# Altium integrated library Micron Memory Parallel NOR Flash.IntLib: 720 symbols (part 118 of 216)
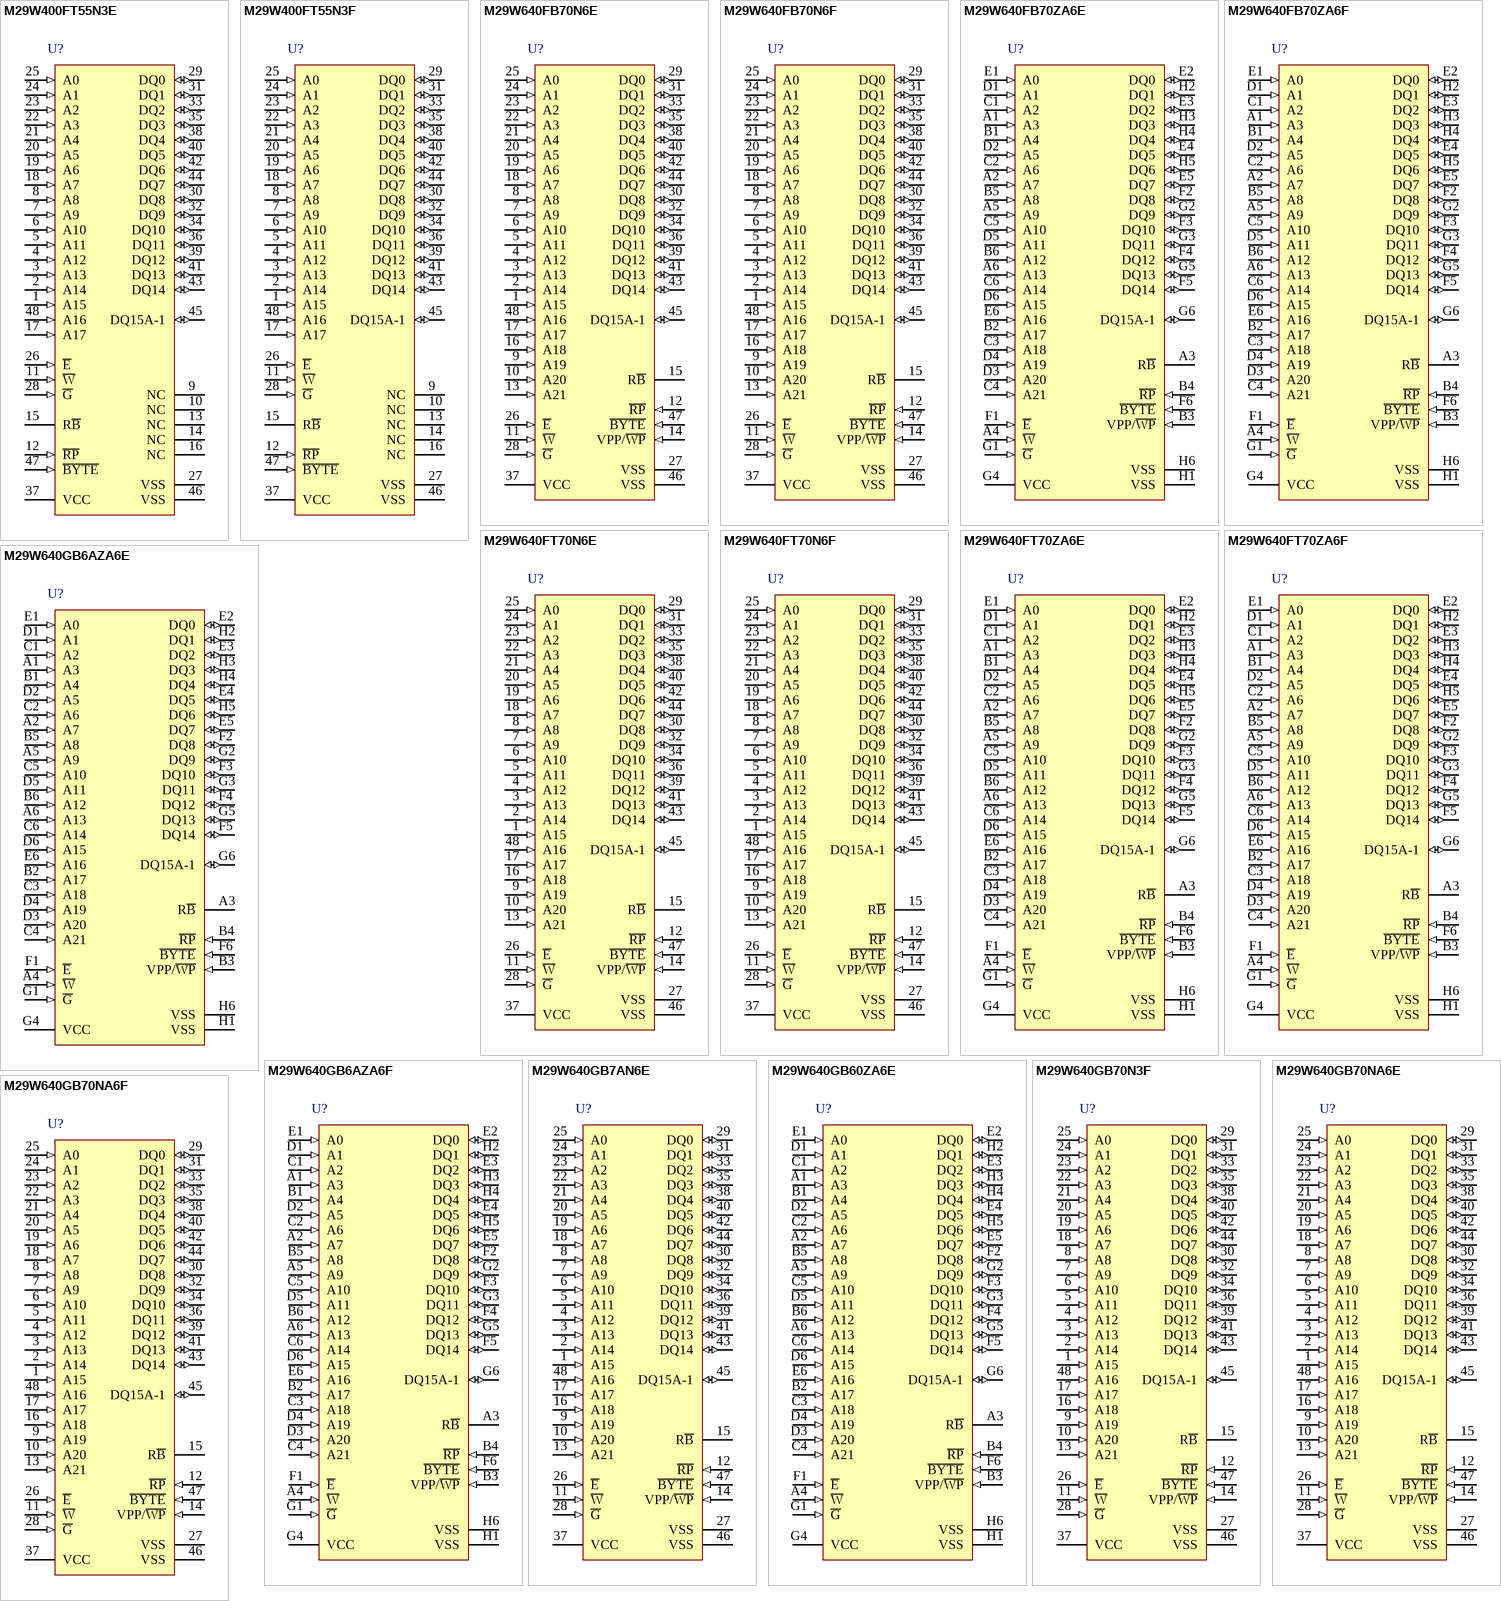
[diagram p161: symbols M29W400FT55N3E to M29W640GB70NA6F]

## M29W640GB70NA6E
designator U?
64 Mb (x8/x16) Parallel NOR Flash Memory, 70 ns, 2.7 to 3.6 V, 48-pin TSOP (NA), Tray; Part Family: M29W; Manufacturer: Micron; PartNumber: M29W640GB70NA6E; Density: 64Mb; Op Temp: -40C to +85C; Speed: 70ns; Voltage: 2.7V-3.6V; DatasheetVersion: Rev. 11; PackageVersion: Rev. 11; PackageReference: MICT-NA-48; PackageDescription: 48-Pin TSOP, 18.4 X 12 mm, Pitch 0.5 mm; RoHS: Yes; Width: x8/x16; Mounting Technology: Surface Mount; ComponentLink1Description: Manufacturer URL; ComponentLink1URL: http://www.micron.com/; ComponentLink2Description: Datasheet; ComponentLink2URL: http://www.micron.com/~/media/Documents/Products/Data%20Sheet/NOR%20Flash/Parallel/P33/208034_P33_65nm_SBC_64M_128M_Discrete_DS.pdf; ComponentLink3Description: Package Specification; ComponentLink3URL: http://www.micron.com/~/media/Documents/Products/Data%20Sheet/NOR%20Flash/Parallel/P33/208034_P33_65nm_SBC_64M_128M_Discrete_DS.pdf
footprint MICT-NA-48_N (SOP, 48-Leads, Body 18.5x12.1mm, Pitch 0.5mm, IPC Medium Density)
pins: 1 A15 (in) "The Address Input select the cells in the memory array to access during bus read operations. During bus write operations they control the commands sent to the command interface of the program/erase controller.", 2 A14 (in) "The Address Input select the cells in the memory array to access during bus read operations. During bus write operations they control the commands sent to the command interface of the program/erase controller.", 3 A13 (in) "The Address Input select the cells in the memory array to access during bus read operations. During bus write operations they control the commands sent to the command interface of the program/erase controller.", 4 A12 (in) "The Address Input select the cells in the memory array to access during bus read operations. During bus write operations they control the commands sent to the command interface of the program/erase controller.", 5 A11 (in) "The Address Input select the cells in the memory array to access during bus read operations. During bus write operations they control the commands sent to the command interface of the program/erase controller.", 6 A10 (in) "The Address Input select the cells in the memory array to access during bus read operations. During bus write operations they control the commands sent to the command interface of the program/erase controller.", 7 A9 (in) "The Address Input select the cells in the memory array to access during bus read operations. During bus write operations they control the commands sent to the command interface of the program/erase controller.", 8 A8 (in) "The Address Input select the cells in the memory array to access during bus read operations. During bus write operations they control the commands sent to the command interface of the program/erase controller.", 9 A19 (in) "The Address Input select the cells in the memory array to access during bus read operations. During bus write operations they control the commands sent to the command interface of the program/erase controller.", 10 A20 (in) "The Address Input select the cells in the memory array to access during bus read operations. During bus write operations they control the commands sent to the command interface of the program/erase controller.", 11 ~{W} (in) "The Write Enable, W\, controls the bus write operation of the memory’s command interface.", 12 ~{RP} (in) "The Reset/Block Temporary Unprotect pin can be used to apply a hardware reset to the memory or to temporarily unprotect all blocks that have been protected.", 13 A21 (in) "The Address Input select the cells in the memory array to access during bus read operations. During bus write operations they control the commands sent to the command interface of the program/erase controller.", 14 VPP/~{WP} (in) "The VPP/Write Protect pin provides two functions. The VPP function allows the memory to use an external high voltage power supply to reduce the time required for Unlock Bypass Program operations.", 15 R~{B} (hiz) "The Ready/Busy pin is an open-drain output that can be used to identify when the device is performing a program or erase operation. During program or erase operations Ready/Busy is Low, VOL. Ready/Busy is high-impedance (See Datasheet)", 16 A18 (in) "The Address Input select the cells in the memory array to access during bus read operations. During bus write operations they control the commands sent to the command interface of the program/erase controller.", 17 A17 (in) "The Address Input select the cells in the memory array to access during bus read operations. During bus write operations they control the commands sent to the command interface of the program/erase controller.", 18 A7 (in) "The Address Input select the cells in the memory array to access during bus read operations. During bus write operations they control the commands sent to the command interface of the program/erase controller.", 19 A6 (in) "The Address Input select the cells in the memory array to access during bus read operations. During bus write operations they control the commands sent to the command interface of the program/erase controller.", 20 A5 (in) "The Address Input select the cells in the memory array to access during bus read operations. During bus write operations they control the commands sent to the command interface of the program/erase controller.", 21 A4 (in) "The Address Input select the cells in the memory array to access during bus read operations. During bus write operations they control the commands sent to the command interface of the program/erase controller.", 22 A3 (in) "The Address Input select the cells in the memory array to access during bus read operations. During bus write operations they control the commands sent to the command interface of the program/erase controller.", 23 A2 (in) "The Address Input select the cells in the memory array to access during bus read operations. During bus write operations they control the commands sent to the command interface of the program/erase controller.", 24 A1 (in) "The Address Input select the cells in the memory array to access during bus read operations. During bus write operations they control the commands sent to the command interface of the program/erase controller.", 25 A0 (in) "The Address Input select the cells in the memory array to access during bus read operations. During bus write operations they control the commands sent to the command interface of the program/erase controller.", 26 ~{E} (in) "The Chip Enable, E\, activates the memory, allowing bus read and bus write operations to be performed. When Chip Enable is High, VIH, all other pins are ignored.", 27 VSS (power) "VSS is the reference for all voltage measurements. The device features two VSS pins which must be both connected to the system ground.", 28 ~{G} (in) "The Output Enable, G\, controls the bus read operation of the memory.", 29 DQ0 (io) "The Data I/O Output the data stored at the selected address during a bus read operation. During bus write operations they represent the commands sent to the command interface of the program/erase controller.", 30 DQ8 (io) "The Data I/O outputs the data stored at the selected address during a bus read operation when B\Y\T\E\ is High, VIH. When B\Y\T\E\ is Low, VIL, these pins are not used and are high impedance. During bus write operations the (See Datasheet)", 31 DQ1 (io) "The Data I/O Output the data stored at the selected address during a bus read operation. During bus write operations they represent the commands sent to the command interface of the program/erase controller.", 32 DQ9 (io) "The Data I/O outputs the data stored at the selected address during a bus read operation when B\Y\T\E\ is High, VIH. When B\Y\T\E\ is Low, VIL, these pins are not used and are high impedance. During bus write operations the (See Datasheet)", 33 DQ2 (io) "The Data I/O Output the data stored at the selected address during a bus read operation. During bus write operations they represent the commands sent to the command interface of the program/erase controller.", 34 DQ10 (io) "The Data I/O outputs the data stored at the selected address during a bus read operation when B\Y\T\E\ is High, VIH. When B\Y\T\E\ is Low, VIL, these pins are not used and are high impedance. During bus write operations the (See Datasheet)", 35 DQ3 (io) "The Data I/O outputs the data stored at the selected address during a bus read operation. During bus write operations they represent the commands sent to the command interface of the program/erase controller.", 36 DQ11 (io) "The Data I/O outputs the data stored at the selected address during a bus read operation when B\Y\T\E\ is High, VIH. When B\Y\T\E\ is Low, VIL, these pins are not used and are high impedance. During bus write operations the (See Datasheet)", 37 VCC (power) "VCC provides the power supply for all operations (read, program and erase).The command interface is disabled when the VCC supply voltage is less than the lockout voltage, VLKO. This prevents bus write operations from (See Datasheet)", 38 DQ4 (io) "The Data I/O OUTPUT the data stored at the selected address during a bus read operation. During bus write operations they represent the commands sent to the command interface of the program/erase controller.", 39 DQ12 (io) "The Data I/O outputs the data stored at the selected address during a bus read operation when B\Y\T\E\ is High, VIH. When B\Y\T\E\ is Low, VIL, these pins are not used and are high impedance. During bus write operations the (See Datasheet)", 40 DQ5 (io) "The Data I/O outputs the data stored at the selected address during a bus read operation. During bus write operations they represent the commands sent to the command interface of the program/erase controller.", 41 DQ13 (io) "The Data I/O outputs the data stored at the selected address during a bus read operation when B\Y\T\E\ is High, VIH. When B\Y\T\E\ is Low, VIL, these pins are not used and are high impedance. During bus write operations the (See Datasheet)", 42 DQ6 (io) "The Data I/O outputs the data stored at the selected address during a bus read operation. During bus write operations they represent the commands sent to the command interface of the program/erase controller.", 43 DQ14 (io) "The Data I/O outputs the data stored at the selected address during a bus read operation when B\Y\T\E\ is High, VIH. When B\Y\T\E\ is Low, VIL, these pins are not used and are high impedance. During bus write operations the (See Datasheet)", 44 DQ7 (io) "The Data I/O outputs the data stored at the selected address during a bus read operation. During bus write operations they represent the commands sent to the command interface of the program/erase controller.", 45 DQ15A-1 (io) "When B\Y\T\E\ is High, VIH, this pin behaves as a Data Input/Output pin (as DQ8-DQ14). When B\Y\T\E\ is Low, VIL, this pin behaves as an address pin; DQ15A-1 Low will select the LSB of the addressed word, DQ15A-1 High will (See Datasheet)", 46 VSS (power) "VSS is the reference for all voltage measurements. The device features two VSS pins which must be both connected to the system ground.", 47 ~{BYTE} (in) "The Byte/Word Organization Select pin is used to switch between the x8 and x16 bus modes of the memory. When Byte/Word Organization Select is Low, VIL, the memory is in x8 mode, when it is High, VIH, the memory is in x16 (See Datasheet)", 48 A16 (in) "The Address Input select the cells in the memory array to access during bus read operations. During bus write operations they control the commands sent to the command interface of the program/erase controller."

## M29W640GB70NA6F
designator U?
64 Mb (x8/x16) Parallel NOR Flash Memory, 70 ns, 2.7 to 3.6 V, 48-pin TSOP (NA), Tape & Reel; Part Family: M29W; Manufacturer: Micron; PartNumber: M29W640GB70NA6F; Density: 64Mb; Op Temp: -40C to +85C; Speed: 70ns; Voltage: 2.7V-3.6V; DatasheetVersion: Rev. 11; PackageVersion: Rev. 11; PackageReference: MICT-NA-48; PackageDescription: 48-Pin TSOP, 18.4 X 12 mm, Pitch 0.5 mm; RoHS: Yes; Width: x8/x16; Mounting Technology: Surface Mount; ComponentLink1Description: Manufacturer URL; ComponentLink1URL: http://www.micron.com/; ComponentLink2Description: Datasheet; ComponentLink2URL: http://www.micron.com/~/media/Documents/Products/Data%20Sheet/NOR%20Flash/Parallel/P33/208034_P33_65nm_SBC_64M_128M_Discrete_DS.pdf; ComponentLink3Description: Package Specification; ComponentLink3URL: http://www.micron.com/~/media/Documents/Products/Data%20Sheet/NOR%20Flash/Parallel/P33/208034_P33_65nm_SBC_64M_128M_Discrete_DS.pdf
footprint MICT-NA-48_N (SOP, 48-Leads, Body 18.5x12.1mm, Pitch 0.5mm, IPC Medium Density)
pins: 1 A15 (in) "The Address Input select the cells in the memory array to access during bus read operations. During bus write operations they control the commands sent to the command interface of the program/erase controller.", 2 A14 (in) "The Address Input select the cells in the memory array to access during bus read operations. During bus write operations they control the commands sent to the command interface of the program/erase controller.", 3 A13 (in) "The Address Input select the cells in the memory array to access during bus read operations. During bus write operations they control the commands sent to the command interface of the program/erase controller.", 4 A12 (in) "The Address Input select the cells in the memory array to access during bus read operations. During bus write operations they control the commands sent to the command interface of the program/erase controller.", 5 A11 (in) "The Address Input select the cells in the memory array to access during bus read operations. During bus write operations they control the commands sent to the command interface of the program/erase controller.", 6 A10 (in) "The Address Input select the cells in the memory array to access during bus read operations. During bus write operations they control the commands sent to the command interface of the program/erase controller.", 7 A9 (in) "The Address Input select the cells in the memory array to access during bus read operations. During bus write operations they control the commands sent to the command interface of the program/erase controller.", 8 A8 (in) "The Address Input select the cells in the memory array to access during bus read operations. During bus write operations they control the commands sent to the command interface of the program/erase controller.", 9 A19 (in) "The Address Input select the cells in the memory array to access during bus read operations. During bus write operations they control the commands sent to the command interface of the program/erase controller.", 10 A20 (in) "The Address Input select the cells in the memory array to access during bus read operations. During bus write operations they control the commands sent to the command interface of the program/erase controller.", 11 ~{W} (in) "The Write Enable, W\, controls the bus write operation of the memory’s command interface.", 12 ~{RP} (in) "The Reset/Block Temporary Unprotect pin can be used to apply a hardware reset to the memory or to temporarily unprotect all blocks that have been protected.", 13 A21 (in) "The Address Input select the cells in the memory array to access during bus read operations. During bus write operations they control the commands sent to the command interface of the program/erase controller.", 14 VPP/~{WP} (in) "The VPP/Write Protect pin provides two functions. The VPP function allows the memory to use an external high voltage power supply to reduce the time required for Unlock Bypass Program operations.", 15 R~{B} (hiz) "The Ready/Busy pin is an open-drain output that can be used to identify when the device is performing a program or erase operation. During program or erase operations Ready/Busy is Low, VOL. Ready/Busy is high-impedance (See Datasheet)", 16 A18 (in) "The Address Input select the cells in the memory array to access during bus read operations. During bus write operations they control the commands sent to the command interface of the program/erase controller.", 17 A17 (in) "The Address Input select the cells in the memory array to access during bus read operations. During bus write operations they control the commands sent to the command interface of the program/erase controller.", 18 A7 (in) "The Address Input select the cells in the memory array to access during bus read operations. During bus write operations they control the commands sent to the command interface of the program/erase controller.", 19 A6 (in) "The Address Input select the cells in the memory array to access during bus read operations. During bus write operations they control the commands sent to the command interface of the program/erase controller.", 20 A5 (in) "The Address Input select the cells in the memory array to access during bus read operations. During bus write operations they control the commands sent to the command interface of the program/erase controller.", 21 A4 (in) "The Address Input select the cells in the memory array to access during bus read operations. During bus write operations they control the commands sent to the command interface of the program/erase controller.", 22 A3 (in) "The Address Input select the cells in the memory array to access during bus read operations. During bus write operations they control the commands sent to the command interface of the program/erase controller.", 23 A2 (in) "The Address Input select the cells in the memory array to access during bus read operations. During bus write operations they control the commands sent to the command interface of the program/erase controller.", 24 A1 (in) "The Address Input select the cells in the memory array to access during bus read operations. During bus write operations they control the commands sent to the command interface of the program/erase controller.", 25 A0 (in) "The Address Input select the cells in the memory array to access during bus read operations. During bus write operations they control the commands sent to the command interface of the program/erase controller.", 26 ~{E} (in) "The Chip Enable, E\, activates the memory, allowing bus read and bus write operations to be performed. When Chip Enable is High, VIH, all other pins are ignored.", 27 VSS (power) "VSS is the reference for all voltage measurements. The device features two VSS pins which must be both connected to the system ground.", 28 ~{G} (in) "The Output Enable, G\, controls the bus read operation of the memory.", 29 DQ0 (io) "The Data I/O Output the data stored at the selected address during a bus read operation. During bus write operations they represent the commands sent to the command interface of the program/erase controller.", 30 DQ8 (io) "The Data I/O outputs the data stored at the selected address during a bus read operation when B\Y\T\E\ is High, VIH. When B\Y\T\E\ is Low, VIL, these pins are not used and are high impedance. During bus write operations the (See Datasheet)", 31 DQ1 (io) "The Data I/O Output the data stored at the selected address during a bus read operation. During bus write operations they represent the commands sent to the command interface of the program/erase controller.", 32 DQ9 (io) "The Data I/O outputs the data stored at the selected address during a bus read operation when B\Y\T\E\ is High, VIH. When B\Y\T\E\ is Low, VIL, these pins are not used and are high impedance. During bus write operations the (See Datasheet)", 33 DQ2 (io) "The Data I/O Output the data stored at the selected address during a bus read operation. During bus write operations they represent the commands sent to the command interface of the program/erase controller.", 34 DQ10 (io) "The Data I/O outputs the data stored at the selected address during a bus read operation when B\Y\T\E\ is High, VIH. When B\Y\T\E\ is Low, VIL, these pins are not used and are high impedance. During bus write operations the (See Datasheet)", 35 DQ3 (io) "The Data I/O outputs the data stored at the selected address during a bus read operation. During bus write operations they represent the commands sent to the command interface of the program/erase controller.", 36 DQ11 (io) "The Data I/O outputs the data stored at the selected address during a bus read operation when B\Y\T\E\ is High, VIH. When B\Y\T\E\ is Low, VIL, these pins are not used and are high impedance. During bus write operations the (See Datasheet)", 37 VCC (power) "VCC provides the power supply for all operations (read, program and erase).The command interface is disabled when the VCC supply voltage is less than the lockout voltage, VLKO. This prevents bus write operations from (See Datasheet)", 38 DQ4 (io) "The Data I/O OUTPUT the data stored at the selected address during a bus read operation. During bus write operations they represent the commands sent to the command interface of the program/erase controller.", 39 DQ12 (io) "The Data I/O outputs the data stored at the selected address during a bus read operation when B\Y\T\E\ is High, VIH. When B\Y\T\E\ is Low, VIL, these pins are not used and are high impedance. During bus write operations the (See Datasheet)", 40 DQ5 (io) "The Data I/O outputs the data stored at the selected address during a bus read operation. During bus write operations they represent the commands sent to the command interface of the program/erase controller.", 41 DQ13 (io) "The Data I/O outputs the data stored at the selected address during a bus read operation when B\Y\T\E\ is High, VIH. When B\Y\T\E\ is Low, VIL, these pins are not used and are high impedance. During bus write operations the (See Datasheet)", 42 DQ6 (io) "The Data I/O outputs the data stored at the selected address during a bus read operation. During bus write operations they represent the commands sent to the command interface of the program/erase controller.", 43 DQ14 (io) "The Data I/O outputs the data stored at the selected address during a bus read operation when B\Y\T\E\ is High, VIH. When B\Y\T\E\ is Low, VIL, these pins are not used and are high impedance. During bus write operations the (See Datasheet)", 44 DQ7 (io) "The Data I/O outputs the data stored at the selected address during a bus read operation. During bus write operations they represent the commands sent to the command interface of the program/erase controller.", 45 DQ15A-1 (io) "When B\Y\T\E\ is High, VIH, this pin behaves as a Data Input/Output pin (as DQ8-DQ14). When B\Y\T\E\ is Low, VIL, this pin behaves as an address pin; DQ15A-1 Low will select the LSB of the addressed word, DQ15A-1 High will (See Datasheet)", 46 VSS (power) "VSS is the reference for all voltage measurements. The device features two VSS pins which must be both connected to the system ground.", 47 ~{BYTE} (in) "The Byte/Word Organization Select pin is used to switch between the x8 and x16 bus modes of the memory. When Byte/Word Organization Select is Low, VIL, the memory is in x8 mode, when it is High, VIH, the memory is in x16 (See Datasheet)", 48 A16 (in) "The Address Input select the cells in the memory array to access during bus read operations. During bus write operations they control the commands sent to the command interface of the program/erase controller."

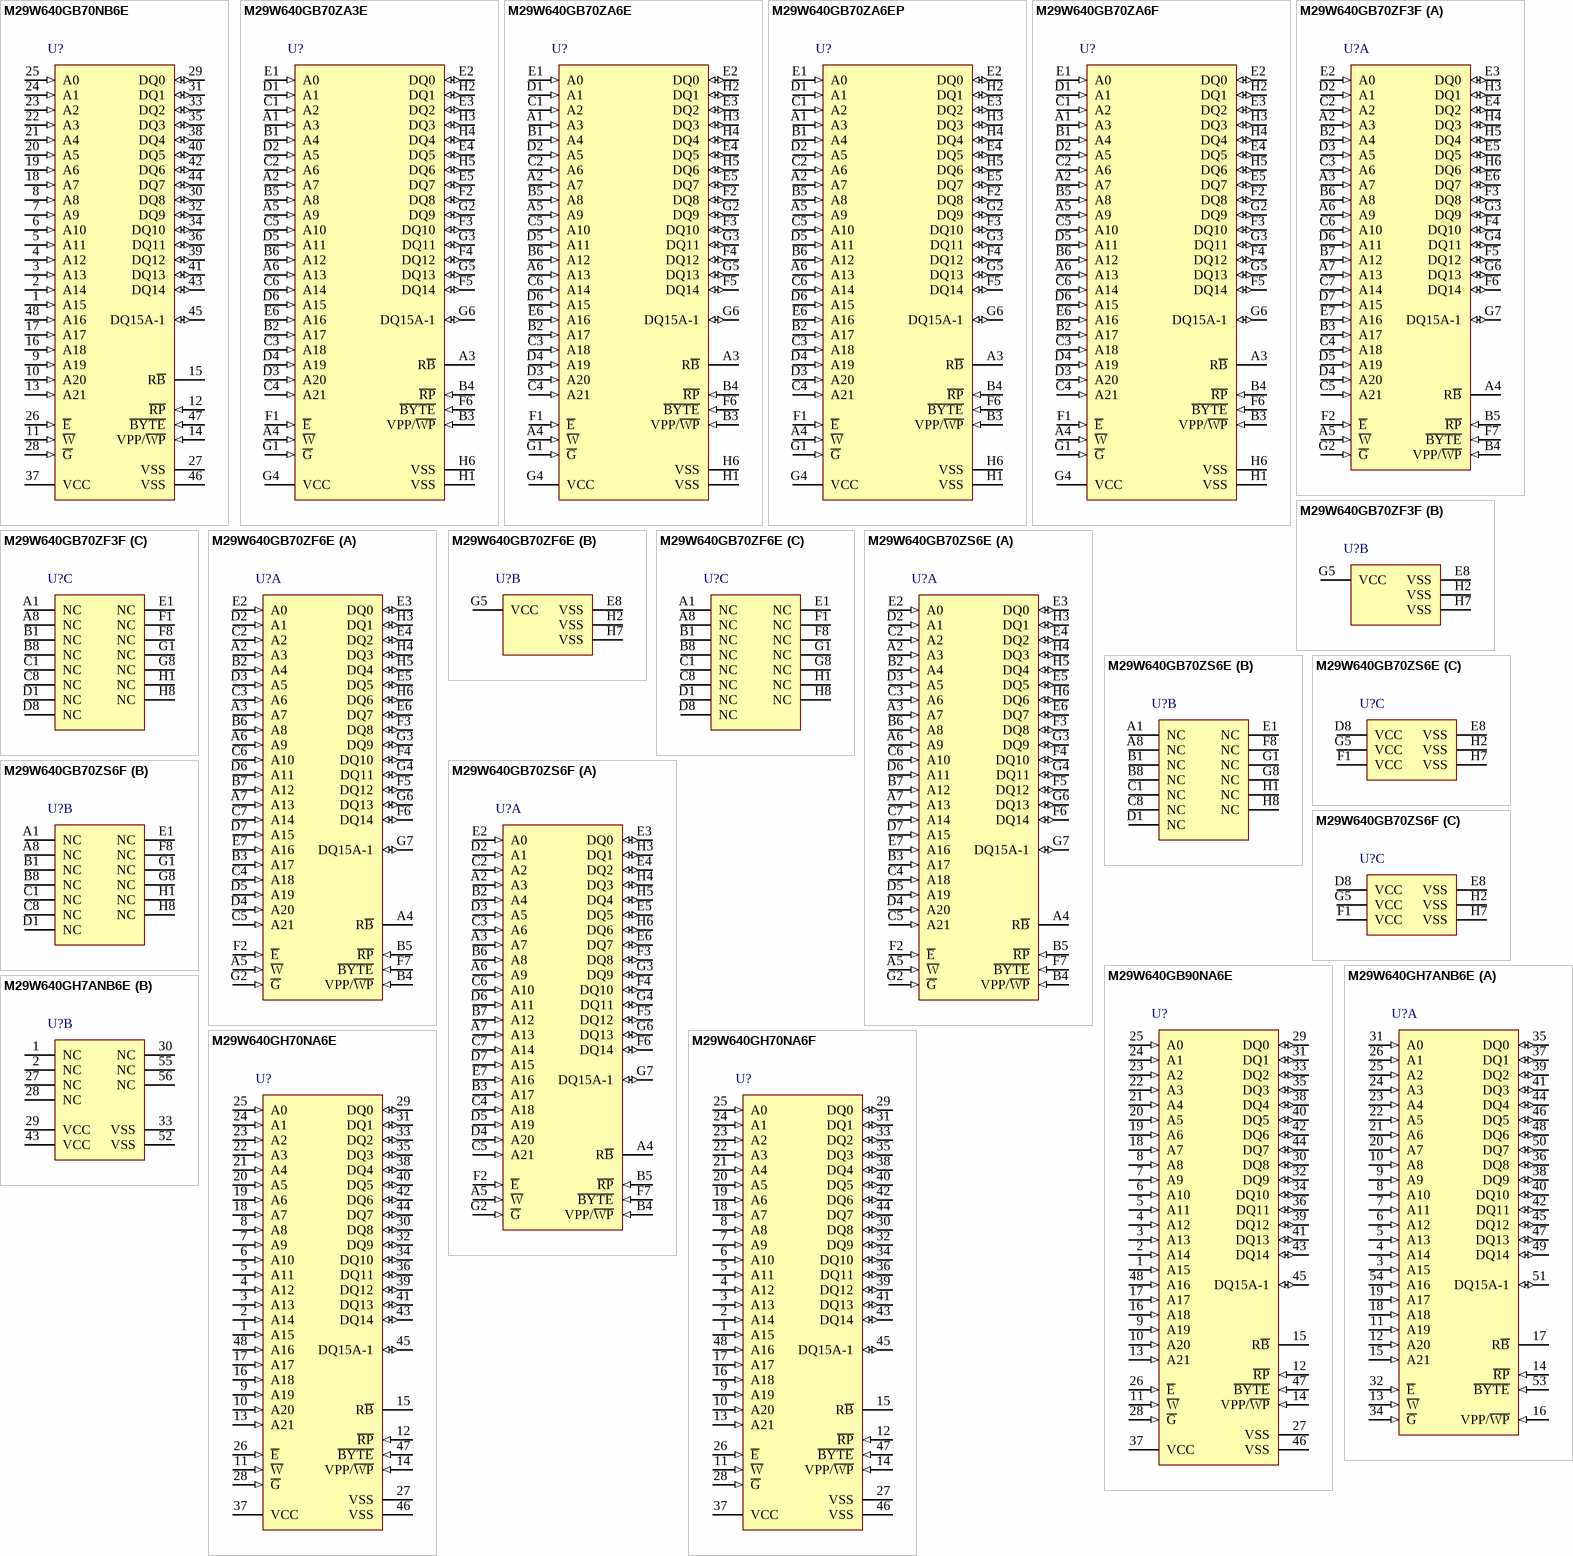
[diagram p32: symbols M29W640GB70NB6E to M29W640GH70NA6F]

## M29W640GB70NB6E
designator U?
64 Mb (x8/x16) Parallel NOR Flash Memory, 70 ns, 2.7 to 3.6 V, 56-pin TSOP (NB), Tray; Part Family: M29W; Manufacturer: Micron; PartNumber: M29W640GB70NB6E; Density: 64Mb; Op Temp: -40C to +85C; Speed: 70ns; Voltage: 2.7V-3.6V; DatasheetVersion: Rev. 11; PackageVersion: Rev. 11; PackageReference: MICT-NB-56; PackageDescription: 56-Pin TSOP, 18.4 X 14 mm, Pitch 0.5 mm; RoHS: Yes; Width: x8/x16; Mounting Technology: Surface Mount; ComponentLink1Description: Manufacturer URL; ComponentLink1URL: http://www.micron.com/; ComponentLink2Description: Datasheet; ComponentLink2URL: http://www.micron.com/~/media/Documents/Products/Data%20Sheet/NOR%20Flash/Parallel/P33/208034_P33_65nm_SBC_64M_128M_Discrete_DS.pdf; ComponentLink3Description: Package Specification; ComponentLink3URL: http://www.micron.com/~/media/Documents/Products/Data%20Sheet/NOR%20Flash/Parallel/P33/208034_P33_65nm_SBC_64M_128M_Discrete_DS.pdf
footprint MICT-NB-56_N (SOP, 56-Leads, Body 18.4x14mm, Pitch 0.5mm, IPC Medium Density)
pins: 1 A15 (in) "The Address Input select the cells in the memory array to access during bus read operations. During bus write operations they control the commands sent to the command interface of the program/erase controller.", 2 A14 (in) "The Address Input select the cells in the memory array to access during bus read operations. During bus write operations they control the commands sent to the command interface of the program/erase controller.", 3 A13 (in) "The Address Input select the cells in the memory array to access during bus read operations. During bus write operations they control the commands sent to the command interface of the program/erase controller.", 4 A12 (in) "The Address Input select the cells in the memory array to access during bus read operations. During bus write operations they control the commands sent to the command interface of the program/erase controller.", 5 A11 (in) "The Address Input select the cells in the memory array to access during bus read operations. During bus write operations they control the commands sent to the command interface of the program/erase controller.", 6 A10 (in) "The Address Input select the cells in the memory array to access during bus read operations. During bus write operations they control the commands sent to the command interface of the program/erase controller.", 7 A9 (in) "The Address Input select the cells in the memory array to access during bus read operations. During bus write operations they control the commands sent to the command interface of the program/erase controller.", 8 A8 (in) "The Address Input select the cells in the memory array to access during bus read operations. During bus write operations they control the commands sent to the command interface of the program/erase controller.", 9 A19 (in) "The Address Input select the cells in the memory array to access during bus read operations. During bus write operations they control the commands sent to the command interface of the program/erase controller.", 10 A20 (in) "The Address Input select the cells in the memory array to access during bus read operations. During bus write operations they control the commands sent to the command interface of the program/erase controller.", 11 ~{W} (in) "The Write Enable, W\, controls the bus write operation of the memory’s command interface.", 12 ~{RP} (in) "The Reset/Block Temporary Unprotect pin can be used to apply a hardware reset to the memory or to temporarily unprotect all blocks that have been protected.", 13 A21 (in) "The Address Input select the cells in the memory array to access during bus read operations. During bus write operations they control the commands sent to the command interface of the program/erase controller.", 14 VPP/~{WP} (in) "The VPP/Write Protect pin provides two functions. The VPP function allows the memory to use an external high voltage power supply to reduce the time required for Unlock Bypass Program operations.", 15 R~{B} (hiz) "The Ready/Busy pin is an open-drain output that can be used to identify when the device is performing a program or erase operation. During program or erase operations Ready/Busy is Low, VOL. Ready/Busy is high-impedance (See Datasheet)", 16 A18 (in) "The Address Input select the cells in the memory array to access during bus read operations. During bus write operations they control the commands sent to the command interface of the program/erase controller.", 17 A17 (in) "The Address Input select the cells in the memory array to access during bus read operations. During bus write operations they control the commands sent to the command interface of the program/erase controller.", 18 A7 (in) "The Address Input select the cells in the memory array to access during bus read operations. During bus write operations they control the commands sent to the command interface of the program/erase controller.", 19 A6 (in) "The Address Input select the cells in the memory array to access during bus read operations. During bus write operations they control the commands sent to the command interface of the program/erase controller.", 20 A5 (in) "The Address Input select the cells in the memory array to access during bus read operations. During bus write operations they control the commands sent to the command interface of the program/erase controller.", 21 A4 (in) "The Address Input select the cells in the memory array to access during bus read operations. During bus write operations they control the commands sent to the command interface of the program/erase controller.", 22 A3 (in) "The Address Input select the cells in the memory array to access during bus read operations. During bus write operations they control the commands sent to the command interface of the program/erase controller.", 23 A2 (in) "The Address Input select the cells in the memory array to access during bus read operations. During bus write operations they control the commands sent to the command interface of the program/erase controller.", 24 A1 (in) "The Address Input select the cells in the memory array to access during bus read operations. During bus write operations they control the commands sent to the command interface of the program/erase controller.", 25 A0 (in) "The Address Input select the cells in the memory array to access during bus read operations. During bus write operations they control the commands sent to the command interface of the program/erase controller.", 26 ~{E} (in) "The Chip Enable, E\, activates the memory, allowing bus read and bus write operations to be performed. When Chip Enable is High, VIH, all other pins are ignored.", 27 VSS (power) "VSS is the reference for all voltage measurements. The device features two VSS pins which must be both connected to the system ground.", 28 ~{G} (in) "The Output Enable, G\, controls the bus read operation of the memory.", 29 DQ0 (io) "The Data I/O Output the data stored at the selected address during a bus read operation. During bus write operations they represent the commands sent to the command interface of the program/erase controller.", 30 DQ8 (io) "The Data I/O outputs the data stored at the selected address during a bus read operation when B\Y\T\E\ is High, VIH. When B\Y\T\E\ is Low, VIL, these pins are not used and are high impedance. During bus write operations the (See Datasheet)", 31 DQ1 (io) "The Data I/O Output the data stored at the selected address during a bus read operation. During bus write operations they represent the commands sent to the command interface of the program/erase controller.", 32 DQ9 (io) "The Data I/O outputs the data stored at the selected address during a bus read operation when B\Y\T\E\ is High, VIH. When B\Y\T\E\ is Low, VIL, these pins are not used and are high impedance. During bus write operations the (See Datasheet)", 33 DQ2 (io) "The Data I/O Output the data stored at the selected address during a bus read operation. During bus write operations they represent the commands sent to the command interface of the program/erase controller.", 34 DQ10 (io) "The Data I/O outputs the data stored at the selected address during a bus read operation when B\Y\T\E\ is High, VIH. When B\Y\T\E\ is Low, VIL, these pins are not used and are high impedance. During bus write operations the (See Datasheet)", 35 DQ3 (io) "The Data I/O outputs the data stored at the selected address during a bus read operation. During bus write operations they represent the commands sent to the command interface of the program/erase controller.", 36 DQ11 (io) "The Data I/O outputs the data stored at the selected address during a bus read operation when B\Y\T\E\ is High, VIH. When B\Y\T\E\ is Low, VIL, these pins are not used and are high impedance. During bus write operations the (See Datasheet)", 37 VCC (power) "VCC provides the power supply for all operations (read, program and erase).The command interface is disabled when the VCC supply voltage is less than the lockout voltage, VLKO. This prevents bus write operations from (See Datasheet)", 38 DQ4 (io) "The Data I/O OUTPUT the data stored at the selected address during a bus read operation. During bus write operations they represent the commands sent to the command interface of the program/erase controller.", 39 DQ12 (io) "The Data I/O outputs the data stored at the selected address during a bus read operation when B\Y\T\E\ is High, VIH. When B\Y\T\E\ is Low, VIL, these pins are not used and are high impedance. During bus write operations the (See Datasheet)", 40 DQ5 (io) "The Data I/O outputs the data stored at the selected address during a bus read operation. During bus write operations they represent the commands sent to the command interface of the program/erase controller.", 41 DQ13 (io) "The Data I/O outputs the data stored at the selected address during a bus read operation when B\Y\T\E\ is High, VIH. When B\Y\T\E\ is Low, VIL, these pins are not used and are high impedance. During bus write operations the (See Datasheet)", 42 DQ6 (io) "The Data I/O outputs the data stored at the selected address during a bus read operation. During bus write operations they represent the commands sent to the command interface of the program/erase controller.", 43 DQ14 (io) "The Data I/O outputs the data stored at the selected address during a bus read operation when B\Y\T\E\ is High, VIH. When B\Y\T\E\ is Low, VIL, these pins are not used and are high impedance. During bus write operations the (See Datasheet)", 44 DQ7 (io) "The Data I/O outputs the data stored at the selected address during a bus read operation. During bus write operations they represent the commands sent to the command interface of the program/erase controller.", 45 DQ15A-1 (io) "When B\Y\T\E\ is High, VIH, this pin behaves as a Data Input/Output pin (as DQ8-DQ14). When B\Y\T\E\ is Low, VIL, this pin behaves as an address pin; DQ15A-1 Low will select the LSB of the addressed word, DQ15A-1 High will (See Datasheet)", 46 VSS (power) "VSS is the reference for all voltage measurements. The device features two VSS pins which must be both connected to the system ground.", 47 ~{BYTE} (in) "The Byte/Word Organization Select pin is used to switch between the x8 and x16 bus modes of the memory. When Byte/Word Organization Select is Low, VIL, the memory is in x8 mode, when it is High, VIH, the memory is in x16 (See Datasheet)", 48 A16 (in) "The Address Input select the cells in the memory array to access during bus read operations. During bus write operations they control the commands sent to the command interface of the program/erase controller."

## M29W640GB70ZA3E
designator U?
64 Mb (x8/x16) Automotive Parallel NOR Flash Memory, 70 ns, 2.7 to 3.6 V, 48-ball TFBGA (ZA), Tray; Part Family: M29W; Manufacturer: Micron; PartNumber: M29W640GB70ZA3E; Density: 64Mb; Op Temp: -40C to +125C; Speed: 70ns; Voltage: 2.7V-3.6V; DatasheetVersion: Rev. 11; PackageVersion: Rev. 11; PackageReference: MICT-ZA-48; PackageDescription: 48-Ball TFBGA, 8 X 6 mm, Pitch 0.8 mm; RoHS: Yes; Width: x8/x16; Mounting Technology: Surface Mount; ComponentLink1Description: Manufacturer URL; ComponentLink1URL: http://www.micron.com/; ComponentLink2Description: Datasheet; ComponentLink2URL: http://www.micron.com/~/media/Documents/Products/Data%20Sheet/NOR%20Flash/Parallel/P33/208034_P33_65nm_SBC_64M_128M_Discrete_DS.pdf; ComponentLink3Description: Package Specification; ComponentLink3URL: http://www.micron.com/~/media/Documents/Products/Data%20Sheet/NOR%20Flash/Parallel/P33/208034_P33_65nm_SBC_64M_128M_Discrete_DS.pdf
footprint MICT-ZA-48 (BGA, 48-Balls, Body 8x6 mm, Pitch 0.8 mm)
pins: A1 A3 (in) "The Address Input select the cells in the memory array to access during bus read operations. During bus write operations they control the commands sent to the command interface of the program/erase controller.", A2 A7 (in) "The Address Input select the cells in the memory array to access during bus read operations. During bus write operations they control the commands sent to the command interface of the program/erase controller.", A3 R~{B} (hiz) "The Ready/Busy pin is an open-drain output that can be used to identify when the device is performing a program or erase operation. During program or erase operations Ready/Busy is Low, VOL. Ready/Busy is high-impedance (See Datasheet)", A4 ~{W} (in) "The Write Enable, W\, controls the bus write operation of the memory's command interface.", A5 A9 (in) "The Address Input select the cells in the memory array to access during bus read operations. During bus write operations they control the commands sent to the command interface of the program/erase controller.", A6 A13 (in) "The Address Input select the cells in the memory array to access during bus read operations. During bus write operations they control the commands sent to the command interface of the program/erase controller.", B1 A4 (in) "The Address Input select the cells in the memory array to access during bus read operations. During bus write operations they control the commands sent to the command interface of the program/erase controller.", B2 A17 (in) "The Address Input select the cells in the memory array to access during bus read operations. During bus write operations they control the commands sent to the command interface of the program/erase controller.", B3 VPP/~{WP} (in) "The VPP/Write Protect pin provides two functions. The VPP function allows the memory to use an external high voltage power supply to reduce the time required for Unlock Bypass Program operations. The Write Protect function (See Datasheet)", B4 ~{RP} (in) "The Reset/Block Temporary Unprotect pin can be used to apply a hardware reset to the memory or to temporarily unprotect all blocks that have been protected. Note that if VPP/WP is at VIL, then the last and the first block in (See Datasheet)", B5 A8 (in) "The Address Input select the cells in the memory array to access during bus read operations. During bus write operations they control the commands sent to the command interface of the program/erase controller.", B6 A12 (in) "The Address Input select the cells in the memory array to access during bus read operations. During bus write operations they control the commands sent to the command interface of the program/erase controller.", C1 A2 (in) "The Address Input select the cells in the memory array to access during bus read operations. During bus write operations they control the commands sent to the command interface of the program/erase controller.", C2 A6 (in) "The Address Input select the cells in the memory array to access during bus read operations. During bus write operations they control the commands sent to the command interface of the program/erase controller.", C3 A18 (in) "The Address Input select the cells in the memory array to access during bus read operations. During bus write operations they control the commands sent to the command interface of the program/erase controller.", C4 A21 (in) "The Address Input select the cells in the memory array to access during bus read operations. During bus write operations they control the commands sent to the command interface of the program/erase controller.", C5 A10 (in) "The Address Input select the cells in the memory array to access during bus read operations. During bus write operations they control the commands sent to the command interface of the program/erase controller.", C6 A14 (in) "The Address Input select the cells in the memory array to access during bus read operations. During bus write operations they control the commands sent to the command interface of the program/erase controller.", D1 A1 (in) "The Address Input select the cells in the memory array to access during bus read operations. During bus write operations they control the commands sent to the command interface of the program/erase controller.", D2 A5 (in) "The Address Input select the cells in the memory array to access during bus read operations. During bus write operations they control the commands sent to the command interface of the program/erase controller.", D3 A20 (in) "The Address Input select the cells in the memory array to access during bus read operations. During bus write operations they control the commands sent to the command interface of the program/erase controller.", D4 A19 (in) "The Address Input select the cells in the memory array to access during bus read operations. During bus write operations they control the commands sent to the command interface of the program/erase controller.", D5 A11 (in) "The Address Input select the cells in the memory array to access during bus read operations. During bus write operations they control the commands sent to the command interface of the program/erase controller.", D6 A15 (in) "The Address Input select the cells in the memory array to access during bus read operations. During bus write operations they control the commands sent to the command interface of the program/erase controller.", E1 A0 (in) "The Address Input select the cells in the memory array to access during bus read operations. During bus write operations they control the commands sent to the command interface of the program/erase controller.", E2 DQ0 (io) "The Data I/O OUTPUT the data stored at the selected address during a bus read operation. During bus write operations they represent the commands sent to the command interface of the program/erase controller.", E3 DQ2 (io) "The Data I/O OUTPUT the data stored at the selected address during a bus read operation. During bus write operations they represent the commands sent to the command interface of the program/erase controller.", E4 DQ5 (io) "The Data I/O OUTPUT the data stored at the selected address during a bus read operation. During bus write operations they represent the commands sent to the command interface of the program/erase controller.", E5 DQ7 (io) "The Data I/O OUTPUT the data stored at the selected address during a bus read operation. During bus write operations they represent the commands sent to the command interface of the program/erase controller.", E6 A16 (in) "The Address Input select the cells in the memory array to access during bus read operations. During bus write operations they control the commands sent to the command interface of the program/erase controller.", F1 ~{E} (in) "The Chip Enable, E\, activates the memory, allowing bus read and bus write operations to be performed. When Chip Enable is High, VIH, all other pins are ignored.", F2 DQ8 (io) "The Data I/O OUTPUT the data stored at the selected address during a bus read operation. During bus write operations they represent the commands sent to the command interface of the program/erase controller.", F3 DQ10 (io) "The Data I/O OUTPUT the data stored at the selected address during a bus read operation. During bus write operations they represent the commands sent to the command interface of the program/erase controller.", F4 DQ12 (io) "The Data I/O OUTPUT the data stored at the selected address during a bus read operation. During bus write operations they represent the commands sent to the command interface of the program/erase controller.", F5 DQ14 (io) "The Data I/O OUTPUT the data stored at the selected address during a bus read operation. During bus write operations they represent the commands sent to the command interface of the program/erase controller.", F6 ~{BYTE} (in) "The Byte/Word Organization Select pin is used to switch between the x8 and x16 bus modes of the memory. When Byte/Word Organization Select is Low, VIL, the memory is in x8 mode, when it is High, VIH, the memory is in x16 (See Datasheet)", G1 ~{G} (in) "The Output Enable, G\, controls the bus read operation of the memory.", G2 DQ9 (io) "The Data I/O OUTPUT the data stored at the selected address during a bus read operation. During bus write operations they represent the commands sent to the command interface of the program/erase controller.", G3 DQ11 (io) "The Data I/O OUTPUT the data stored at the selected address during a bus read operation. During bus write operations they represent the commands sent to the command interface of the program/erase controller.", G4 VCC (power) "VCC provides the power supply for all operations (read, program and erase). The command interface is disabled when the VCC supply voltage is less than the lockout voltage, VLKO. This prevents bus write operations from (See Datasheet)", G5 DQ13 (io) "The Data I/O OUTPUT the data stored at the selected address during a bus read operation. During bus write operations they represent the commands sent to the command interface of the program/erase controller.", G6 DQ15A-1 (io) "When B\Y\T\E\ is High, VIH, this pin behaves as a Data Input/Output pin (as DQ8-DQ14). When B\Y\T\E\ is Low, VIL, this pin behaves as an address pin; DQ15A-1 Low will select the LSB of the addressed word, DQ15A-1 High will (See Datasheet)", H1 VSS (power) "VSS is the reference for all voltage measurements. The device features two VSS pins which must be both connected to the system ground.", H2 DQ1 (io) "The Data I/O OUTPUT the data stored at the selected address during a bus read operation. During bus write operations they represent the commands sent to the command interface of the program/erase controller.", H3 DQ3 (io) "The Data I/O OUTPUT the data stored at the selected address during a bus read operation. During bus write operations they represent the commands sent to the command interface of the program/erase controller.", H4 DQ4 (io) "The Data I/O OUTPUT the data stored at the selected address during a bus read operation. During bus write operations they represent the commands sent to the command interface of the program/erase controller.", H5 DQ6 (io) "The Data I/O OUTPUT the data stored at the selected address during a bus read operation. During bus write operations they represent the commands sent to the command interface of the program/erase controller.", H6 VSS (power) "VSS is the reference for all voltage measurements. The device features two VSS pins which must be both connected to the system ground."